# Altium schematic symbol library ProgrammingHeader.SchLib: 1 symbol
Pins are listed as number, name and electrical type; pins without a type are passive.

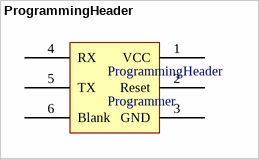
[diagram p0: symbol ProgrammingHeader]

## ProgrammingHeader
designator ProgrammingHeader, comment Programmer
footprint ProgrammingHeader (Programming Header)
pins: 1 VCC, 2 Reset, 3 GND, 4 RX, 5 TX, 6 Blank